# EAGLE library part MCP3201-CI/P (library nootropicdesign)
A/D Converter
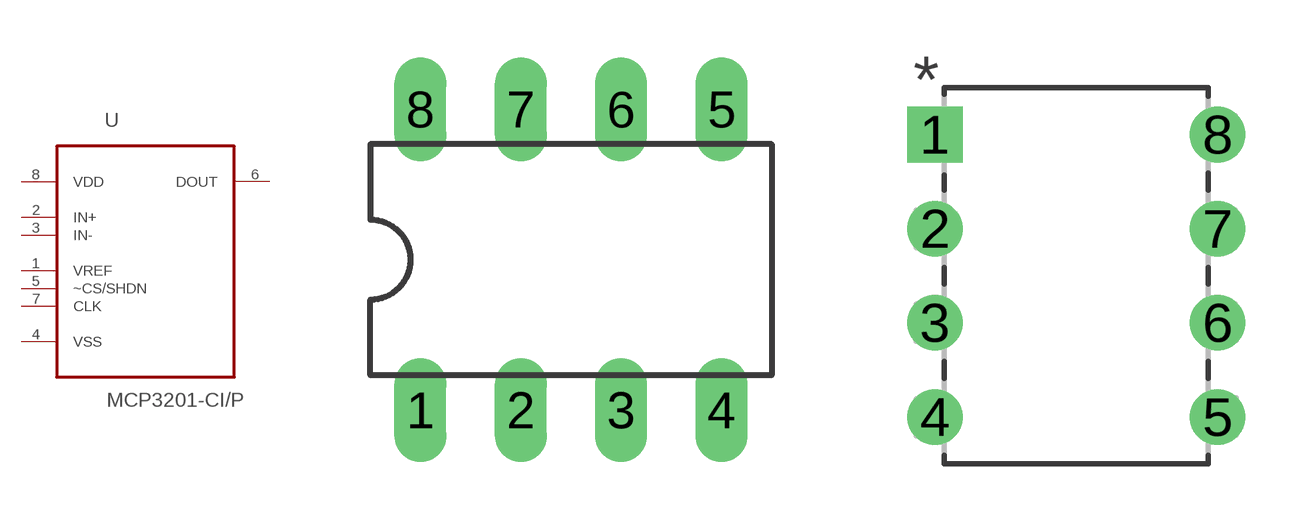
[diagram p0: symbol with the pads of DIL08; footprints DIL08, DIP254P762X533-8]

Designator prefix -

## MCP3201-CI/P  [DIL08]
1  VREF  in
2  IN+  in
3  IN-  in
4  VSS  pas
5  ~CS/SHDN  in
6  DOUT  out
7  CLK  in
8  VDD  pwr

## MCP3201-CI/PORIG (MPN: MCP3201-CI/P; OC_FARNELL: 3167239; OC_NEWARK: 19C7203; PACKAGE: DIP-8; SUPPLIER: Microchip)  [DIP254P762X533-8]
Pads as for DIL08

## Footprint DIL08 (pad centres in mm)
Dual In Line Package
drill 0.813 long: 1 -3.81,-3.81; 2 -1.27,-3.81; 3 1.27,-3.81; 4 3.81,-3.81; 5 3.81,3.81; 6 1.27,3.81; 7 -1.27,3.81; 8 -3.81,3.81

## Footprint DIP254P762X533-8 (pad centres in mm)
drill 0.991 square: 1 -7.62,7.62
drill 0.991: 2 -7.62,5.08; 3 -7.62,2.54; 4 -7.62,0; 5 0,0; 6 0,2.54; 7 0,5.08; 8 0,7.62